# EAGLE library part MAPLEMINI (library maplemini)
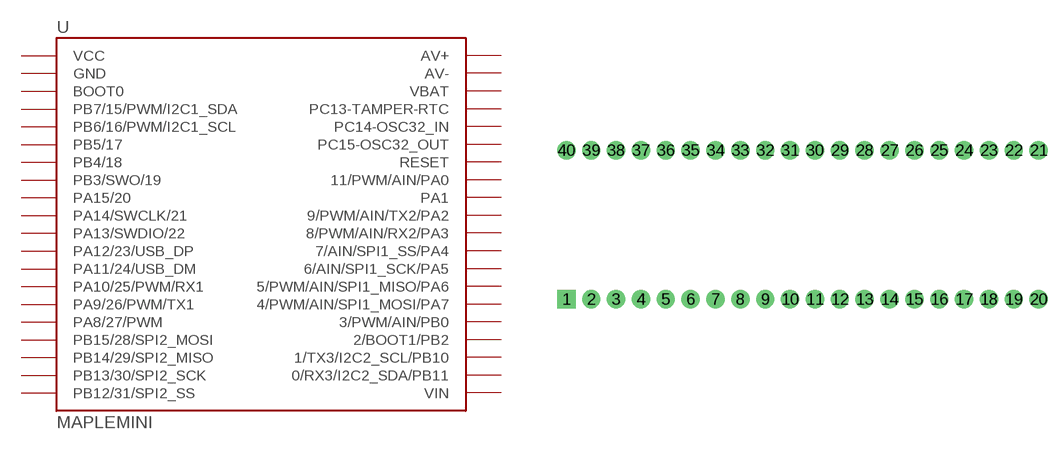
[diagram p0: symbol with the pads of 20-DIP; footprint 20-DIP]

Designator prefix -

## MAPLEMINI  [20-DIP]
1  VCC
2  GND
3  BOOT0
4  PB7/15/PWM/I2C1_SDA
5  PB6/16/PWM/I2C1_SCL
6  PB5/17
7  PB4/18
8  PB3/SWO/19
9  PA15/20
10  PA14/SWCLK/21
11  PA13/SWDIO/22
12  PA12/23/USB_DP
13  PA11/24/USB_DM
14  PA10/25/PWM/RX1
15  PA9/26/PWM/TX1
16  PA8/27/PWM
17  PB15/28/SPI2_MOSI
18  PB14/29/SPI2_MISO
19  PB13/30/SPI2_SCK
20  PB12/31/SPI2_SS
21  VIN
22  0/RX3/I2C2_SDA/PB11
23  1/TX3/I2C2_SCL/PB10
24  2/BOOT1/PB2
25  3/PWM/AIN/PB0
26  4/PWM/AIN/SPI1_MOSI/PA7
27  5/PWM/AIN/SPI1_MISO/PA6
28  6/AIN/SPI1_SCK/PA5
29  7/AIN/SPI1_SS/PA4
30  8/PWM/AIN/RX2/PA3
31  9/PWM/AIN/TX2/PA2
32  PA1
33  11/PWM/AIN/PA0
34  RESET
35  PC15-OSC32_OUT
36  PC14-OSC32_IN
37  PC13-TAMPER-RTC
38  VBAT
39  AV-
40  AV+

## Footprint 20-DIP (pad centres in mm)
drill 1.016 pad 1.88 square: 1 -24.13,-7.62
drill 1.016 pad 1.88: 2 -21.59,-7.62; 3 -19.05,-7.62; 4 -16.51,-7.62; 5 -13.97,-7.62; 6 -11.43,-7.62; 7 -8.89,-7.62; 8 -6.35,-7.62; 9 -3.81,-7.62; 10 -1.27,-7.62; 11 1.27,-7.62; 12 3.81,-7.62; 13 6.35,-7.62; 14 8.89,-7.62; 15 11.43,-7.62; 16 13.97,-7.62; 17 16.51,-7.62; 18 19.05,-7.62; 19 21.59,-7.62; 20 24.13,-7.62; 21 24.13,7.62; 22 21.59,7.62; 23 19.05,7.62; 24 16.51,7.62; 25 13.97,7.62; 26 11.43,7.62; 27 8.89,7.62; 28 6.35,7.62; 29 3.81,7.62; 30 1.27,7.62; 31 -1.27,7.62; 32 -3.81,7.62; 33 -6.35,7.62; 34 -8.89,7.62; 35 -11.43,7.62; 36 -13.97,7.62; 37 -16.51,7.62; 38 -19.05,7.62; 39 -21.59,7.62; 40 -24.13,7.62